# EAGLE library part 6115_KEYPAD (library custom)
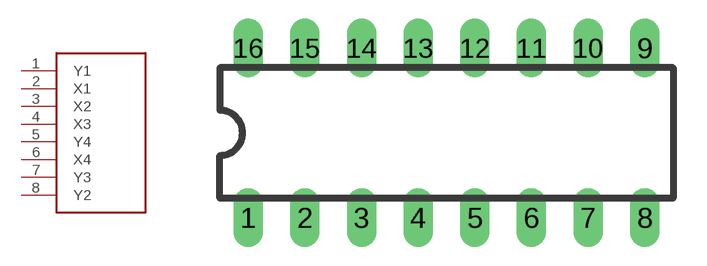
[diagram p9: symbol with the pads of DIL16; footprint DIL16]

Designator prefix -

## 6115_KEYPAD-DIL16  [DIL16]
1  Y1
2  X1
3  X2
4  X3
5  Y4
6  X4
7  Y3
8  Y2

## Footprint DIL16 (pad centres in mm)
Dual In Line Package
drill 0.813 long: 1 -8.89,-3.81; 2 -6.35,-3.81; 3 -3.81,-3.81; 4 -1.27,-3.81; 5 1.27,-3.81; 6 3.81,-3.81; 7 6.35,-3.81; 8 8.89,-3.81; 9 8.89,3.81; 10 6.35,3.81; 11 3.81,3.81; 12 1.27,3.81; 13 -1.27,3.81; 14 -3.81,3.81; 15 -6.35,3.81; 16 -8.89,3.81